# Altium footprint library FT230XS-R.PcbLib: 3 footprints
Each footprint in its own frame and in the unit in brackets; x right, y up, seen from the top. Pads: shape width x height; smd on the part's side, far side on the other; paste and mask are expansions set on the pad; w line width, h text height; cw(c..) or ccw(c..) is an arc to the next point about the centre after c.
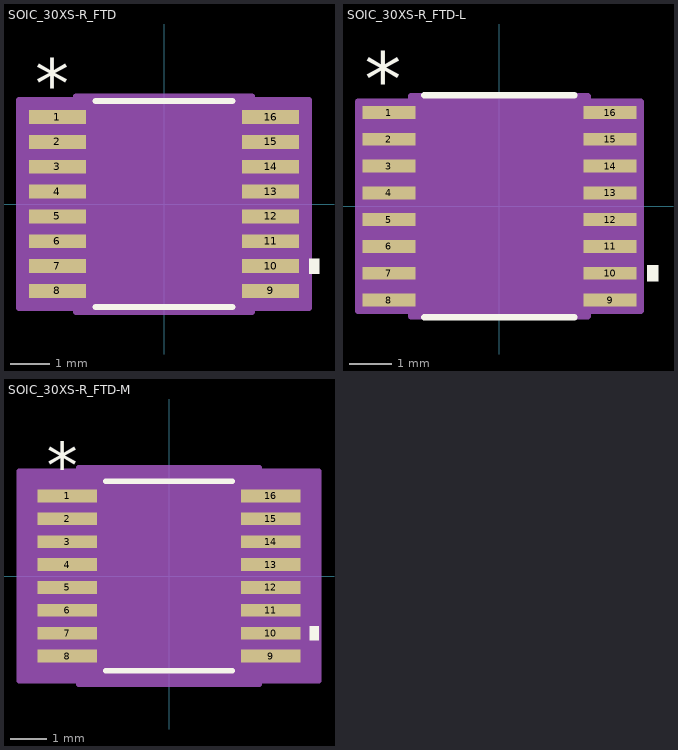
[diagram p0: the footprints below, top view; thin cyan lines are the x and y axes]

## SOIC_30XS-R_FTD [mil]
pads (16):
  rect 57.5x14 smd paste+0 mask+0: 1(-107.25,87.5) 2(-107.25,62.5) 3(-107.25,37.5) 4(-107.25,12.5) 5(-107.25,-12.5) 6(-107.25,-37.5) 7(-107.25,-62.5) 8(-107.25,-87.5) 9(107.25,-87.5) 10(107.25,-62.5) 11(107.25,-37.5) 12(107.25,-12.5) 13(107.25,12.5) 14(107.25,37.5) 15(107.25,62.5) 16(107.25,87.5)
Top Overlay:
  region: 146,-55 156,-55 156,-70 146,-70
  lines w6: -68.98,-103.5 68.98,-103.5 ; -68.98,103.5 68.98,103.5
  text "*" at -129.75,96.5 h50
Mechanical 13:
  lines w0: -12,98.5 ccw(c0,98.5) 12,98.5
  lines w1: -122,-93.5 -122,-81.5 -78.5,-81.5 -78.5,-93.5 -122,-93.5 ; -122,-68.5 -122,-56.5 -78.5,-56.5 -78.5,-68.5 -122,-68.5 ; -122,-43.5 -122,-31.5 -78.5,-31.5 -78.5,-43.5 -122,-43.5 ; -122,-18.5 -122,-6.5 -78.5,-6.5 -78.5,-18.5 -122,-18.5 ; -122,6.5 -122,18.5 -78.5,18.5 -78.5,6.5 -122,6.5 ; -122,31.5 -122,43.5 -78.5,43.5 -78.5,31.5 -122,31.5 ; -122,56.5 -122,68.5 -78.5,68.5 -78.5,56.5 -122,56.5 ; -122,81.5 -122,93.5 -78.5,93.5 -78.5,81.5 -122,81.5 ; -78.5,-98.5 78.5,-98.5 78.5,98.5 -78.5,98.5 -78.5,-98.5 ; 78.5,-93.5 78.5,-81.5 122,-81.5 122,-93.5 78.5,-93.5 ; 78.5,-68.5 78.5,-56.5 122,-56.5 122,-68.5 78.5,-68.5 ; 78.5,-43.5 78.5,-31.5 122,-31.5 122,-43.5 78.5,-43.5 ; 78.5,-18.5 78.5,-6.5 122,-6.5 122,-18.5 78.5,-18.5 ; 78.5,6.5 78.5,18.5 122,18.5 122,6.5 78.5,6.5 ; 78.5,31.5 78.5,43.5 122,43.5 122,31.5 78.5,31.5 ; 78.5,56.5 78.5,68.5 122,68.5 122,56.5 78.5,56.5 ; 78.5,81.5 78.5,93.5 122,93.5 122,81.5 78.5,81.5
  text "*" at -76,45.5 h50
Mechanical 15:
  region: -88.5,-104.5 -146,-104.5 -146,104.5 -88.5,104.5 -88.5,108.5 88.5,108.5 88.5,104.5 146,104.5 146,-104.5 88.5,-104.5 88.5,-108.5 -88.5,-108.5
  lines w6: -146,-104.5 -146,104.5 -88.5,104.5 -88.5,108.5 88.5,108.5 88.5,104.5 146,104.5 146,-104.5 88.5,-104.5 88.5,-108.5 -88.5,-108.5 -88.5,-104.5 -146,-104.5
3D body "SOIC_30XS-R_FTD.step": height 69.09, standoff 0, extent -122.01,-98.5 122.01,98.5
3D body "SOIC_30XS-R_FTD.step": height 69.09, standoff 0, extent -122.01,-98.5 122,98.5

## SOIC_30XS-R_FTD-L [mil]
pads (16):
  rect 49.5x12 smd paste+0 mask+0: 1(-103.25,87.5) 2(-103.25,62.5) 3(-103.25,37.5) 4(-103.25,12.5) 5(-103.25,-12.5) 6(-103.25,-37.5) 7(-103.25,-62.5) 8(-103.25,-87.5) 9(103.25,-87.5) 10(103.25,-62.5) 11(103.25,-37.5) 12(103.25,-12.5) 13(103.25,12.5) 14(103.25,37.5) 15(103.25,62.5) 16(103.25,87.5)
Top Overlay:
  region: 138,-55 148,-55 148,-70 138,-70
  lines w6: -70.04,-103.5 70.04,-103.5 ; -70.04,103.5 70.04,103.5
  text "*" at -125.75,94.5 h50
Mechanical 13:
  lines w0: -12,98.5 ccw(c0,98.5) 12,98.5
  lines w1: -122,-93.5 -122,-81.5 -78.5,-81.5 -78.5,-93.5 -122,-93.5 ; -122,-68.5 -122,-56.5 -78.5,-56.5 -78.5,-68.5 -122,-68.5 ; -122,-43.5 -122,-31.5 -78.5,-31.5 -78.5,-43.5 -122,-43.5 ; -122,-18.5 -122,-6.5 -78.5,-6.5 -78.5,-18.5 -122,-18.5 ; -122,6.5 -122,18.5 -78.5,18.5 -78.5,6.5 -122,6.5 ; -122,31.5 -122,43.5 -78.5,43.5 -78.5,31.5 -122,31.5 ; -122,56.5 -122,68.5 -78.5,68.5 -78.5,56.5 -122,56.5 ; -122,81.5 -122,93.5 -78.5,93.5 -78.5,81.5 -122,81.5 ; -78.5,-98.5 78.5,-98.5 78.5,98.5 -78.5,98.5 -78.5,-98.5 ; 78.5,-93.5 78.5,-81.5 122,-81.5 122,-93.5 78.5,-93.5 ; 78.5,-68.5 78.5,-56.5 122,-56.5 122,-68.5 78.5,-68.5 ; 78.5,-43.5 78.5,-31.5 122,-31.5 122,-43.5 78.5,-43.5 ; 78.5,-18.5 78.5,-6.5 122,-6.5 122,-18.5 78.5,-18.5 ; 78.5,6.5 78.5,18.5 122,18.5 122,6.5 78.5,6.5 ; 78.5,31.5 78.5,43.5 122,43.5 122,31.5 78.5,31.5 ; 78.5,56.5 78.5,68.5 122,68.5 122,56.5 78.5,56.5 ; 78.5,81.5 78.5,93.5 122,93.5 122,81.5 78.5,81.5
  text "*" at -76,45.5 h50
Mechanical 15:
  region: -82.5,-97.5 -132,-97.5 -132,97.5 -82.5,97.5 -82.5,102.5 82.5,102.5 82.5,97.5 132,97.5 132,-97.5 82.5,-97.5 82.5,-102.5 -82.5,-102.5
  lines w6: -132,-97.5 -132,97.5 -82.5,97.5 -82.5,102.5 82.5,102.5 82.5,97.5 132,97.5 132,-97.5 82.5,-97.5 82.5,-102.5 -82.5,-102.5 -82.5,-97.5 -132,-97.5
3D body "SOIC_30XS-R_FTD.step": height 69.09, standoff 0, extent -122.01,-98.5 122.01,98.5

## SOIC_30XS-R_FTD-M [mil]
pads (16):
  rect 65.5x14 smd paste+0 mask+0: 1(-111.25,87.5) 2(-111.25,62.5) 3(-111.25,37.5) 4(-111.25,12.5) 5(-111.25,-12.5) 6(-111.25,-37.5) 7(-111.25,-62.5) 8(-111.25,-87.5) 9(111.25,-87.5) 10(111.25,-62.5) 11(111.25,-37.5) 12(111.25,-12.5) 13(111.25,12.5) 14(111.25,37.5) 15(111.25,62.5) 16(111.25,87.5)
Top Overlay:
  region: 154,-55 164,-55 164,-70 154,-70
  lines w6: -68.98,-103.5 68.98,-103.5 ; -68.98,103.5 68.98,103.5
  text "*" at -133.75,96.5 h50
Mechanical 13:
  lines w0: -12,98.5 ccw(c0,98.5) 12,98.5
  lines w1: -122,-93.5 -78.5,-93.5 -78.5,-81.5 -122,-81.5 -122,-93.5 ; -122,-68.5 -78.5,-68.5 -78.5,-56.5 -122,-56.5 -122,-68.5 ; -122,-43.5 -78.5,-43.5 -78.5,-31.5 -122,-31.5 -122,-43.5 ; -122,-18.5 -78.5,-18.5 -78.5,-6.5 -122,-6.5 -122,-18.5 ; -122,6.5 -78.5,6.5 -78.5,18.5 -122,18.5 -122,6.5 ; -122,31.5 -78.5,31.5 -78.5,43.5 -122,43.5 -122,31.5 ; -122,56.5 -78.5,56.5 -78.5,68.5 -122,68.5 -122,56.5 ; -122,81.5 -78.5,81.5 -78.5,93.5 -122,93.5 -122,81.5 ; -78.5,-98.5 -78.5,98.5 78.5,98.5 78.5,-98.5 -78.5,-98.5 ; 78.5,-93.5 122,-93.5 122,-81.5 78.5,-81.5 78.5,-93.5 ; 78.5,-68.5 122,-68.5 122,-56.5 78.5,-56.5 78.5,-68.5 ; 78.5,-43.5 122,-43.5 122,-31.5 78.5,-31.5 78.5,-43.5 ; 78.5,-18.5 122,-18.5 122,-6.5 78.5,-6.5 78.5,-18.5 ; 78.5,6.5 122,6.5 122,18.5 78.5,18.5 78.5,6.5 ; 78.5,31.5 122,31.5 122,43.5 78.5,43.5 78.5,31.5 ; 78.5,56.5 122,56.5 122,68.5 78.5,68.5 78.5,56.5 ; 78.5,81.5 122,81.5 122,93.5 78.5,93.5 78.5,81.5
  text "*" at -76,45.5 h50
Mechanical 15:
  region: -98.5,-114.5 -164,-114.5 -164,114.5 -98.5,114.5 -98.5,118.5 98.5,118.5 98.5,114.5 164,114.5 164,-114.5 98.5,-114.5 98.5,-118.5 -98.5,-118.5
  lines w6: -164,-114.5 -98.5,-114.5 -98.5,-118.5 98.5,-118.5 98.5,-114.5 164,-114.5 164,114.5 98.5,114.5 98.5,118.5 -98.5,118.5 -98.5,114.5 -164,114.5 -164,-114.5
3D body "SOIC_30XS-R_FTD.step": height 69.09, standoff 0, extent -122.01,-98.5 122.01,98.5